# Altium schematic symbol library AltiumilePcbCizimi_Library.SchLib: 28 symbols
Pins are listed as number, name and electrical type; pins without a type are passive.

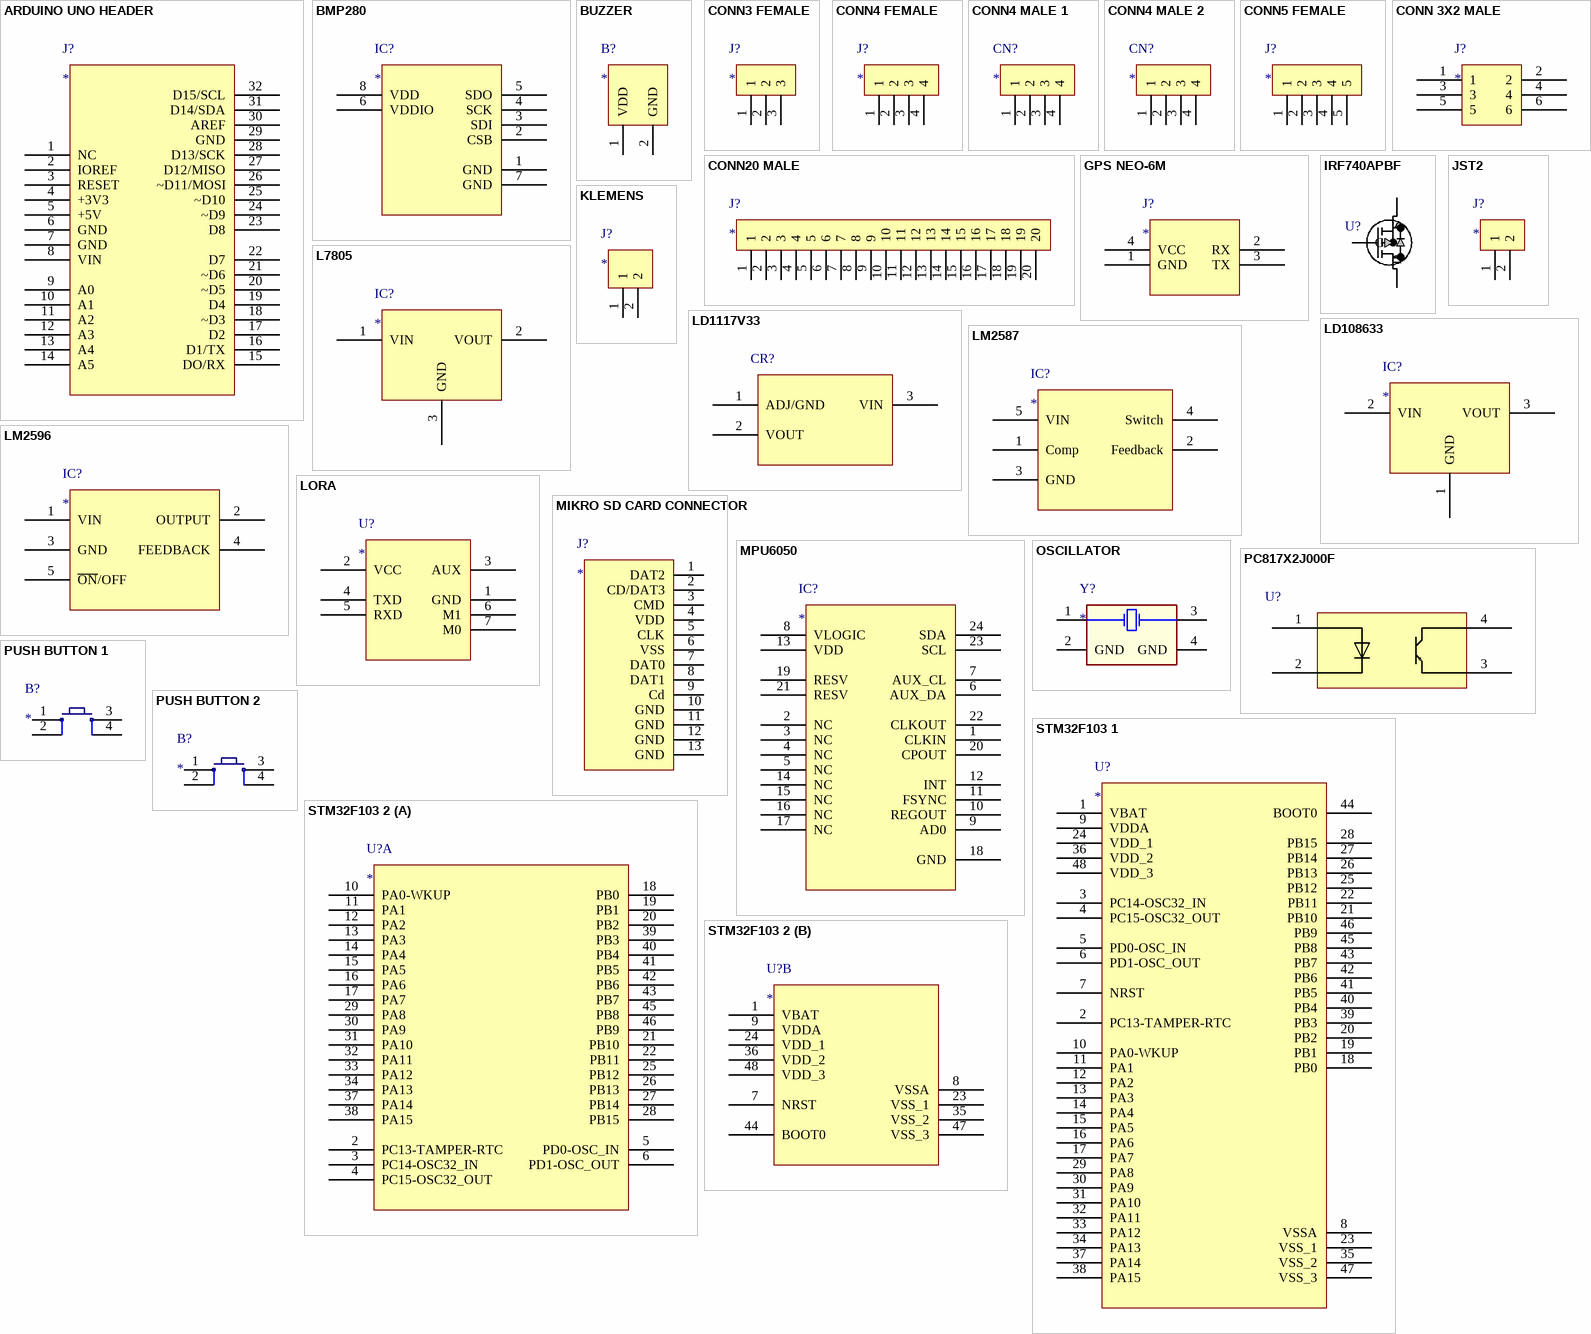
[diagram p0: symbols ARDUINO UNO HEADER to STM32F103 2]

## ARDUINO UNO HEADER
designator J?
footprint ARDUINO UNO HEADER
pins: 1 NC, 2 IOREF, 3 RESET, 4 +3V3, 5 +5V, 6 GND, 7 GND, 8 VIN, 9 A0, 10 A1, 11 A2, 12 A3, 13 A4, 14 A5, 15 DO/RX, 16 D1/TX, 17 D2, 18 ~D3, 19 D4, 20 ~D5, 21 ~D6, 22 D7, 23 D8, 24 ~D9, 25 ~D10, 26 ~D11/MOSI, 27 D12/MISO, 28 D13/SCK, 29 GND, 30 AREF, 31 D14/SDA, 32 D15/SCL

## BMP280
designator IC?
footprint BMP280
pins: 1 GND, 2 CSB, 3 SDI, 4 SCK, 5 SDO, 6 VDDIO, 7 GND, 8 VDD

## BUZZER
designator B?
footprint BUZZER
pins: 1 VDD, 2 GND

## CONN3 FEMALE
designator J?
3 PIN 2.54MM
footprint CONN3 FEMALE (3 PIN 2.54MM)
pins: 1, 2, 3

## CONN4 FEMALE
designator J?
4 PIN 2.54MM
footprint CONN4 FEMALE (4 PIN 2.54MM)
pins: 1, 2, 3, 4

## CONN4 MALE 1
designator CN?
4 PIN 2.54MM
footprint CONN4 MALE 1 (4 PIN 2.54MM)
pins: 1, 2, 3, 4

## CONN4 MALE 2
designator CN?
4 PIN 2.54MM; Supplier 1: Digi-Key; Supplier 2: Farnell; Supplier 3: Mouser; Supplier 4: Arrow Electronics; Supplier Part Number 1: WM8074-ND; Supplier Part Number 2: 3107372; Supplier Part Number 3: 538-90120-0124; Supplier Part Number 4: 90120-0124
footprint CONN4 MALE 2 (4 PIN 2.54MM)
pins: 1, 2, 3, 4

## CONN5 FEMALE
designator J?
4 PIN 2.54MM
footprint CONN5 FEMALE (5 PIN 2.54MM)
pins: 1, 2, 3, 4, 5

## CONN20 MALE
designator J?
20 PIN 2.54MM
footprint CONN20 MALE (3 PIN 2.54MM)
pins: 1, 2, 3, 4, 5, 6, 7, 8, 9, 10, 11, 12, 13, 14, 15, 16, 17, 18, 19, 20

## CONN 3X2 MALE
designator J?
3X2 PIN 2.54MM
footprint CONN 3X2 MALE (3X2 PIN 2.54MM)
pins: 1, 2, 3, 4, 5, 6

## GPS NEO-6M
designator J?
footprint GPS NEO-6M
pins: 1 GND, 2 RX, 3 TX, 4 VCC

## IRF740APBF
designator U?
Mfr_Name: Vishay; Manufacturer_Part_Number: IRF740APBF; Copyright: Copyright (C) 2021 Ultra Librarian. All rights reserved.; RefDes: RefDes; Type: DEV
footprint TO220-IRF740APBF
pins: 1 G, 2 D, 3 S

## JST2
designator J?
2 PIN 2.54MM
footprint JST2 (2 PIN 2.54MM)
pins: 1, 2

## KLEMENS
designator J?
2 PIN 3.5MM
footprint KLEMENS (2 PIN)
pins: 1, 2

## L7805
designator IC?
IC-7805 V.REG.+5V 1.5A DPAK TO252
footprint DPAK (D-PAK, 3-Pads, Body 6,20x6,56mm (max), IPC Medium Density)
pins: 1 VIN, 2 VOUT, 3 GND

## LD1117V33
designator CR?
Mfr_Name: STMicroelectronics; Manufacturer_Part_Number: LD1117V33; Type: DEV; Copyright: Copyright (C) 2021 Ultra Librarian. All rights reserved.; Digi-Key_Part_Number_1: 497-1491-5-ND; RefDes: RefDes
footprint TO220-LD1117V33
pins: 1 ADJ/GND, 2 VOUT (power), 3 VIN (power)

## LD108633
designator IC?
IC-1086 V.REG LDO 3.3V 1.5A TO-252 (DPAK)
footprint DPAK (D-PAK, 3-Pads, Body 6,20x6,56mm (max), IPC Medium Density)
pins: 1 GND, 2 VIN, 3 VOUT

## LM2587
designator IC?
Boost Converter
footprint D2PAK
pins: 1 Comp, 2 Feedback, 3 GND, 4 Switch, 5 VIN

## LM2596
designator IC?
Buck Converter
footprint D2PAK
pins: 1 VIN, 2 OUTPUT, 3 GND, 4 FEEDBACK, 5 ~{ON}/OFF

## LORA
designator U?
E32-TTL-100 SX1278 433 MHz
footprint LORA (E32-TTL-100 SX1278 433 MHz)
pins: 1 GND, 2 VCC, 3 AUX, 4 TXD, 5 RXD, 6 M1, 7 M0

## MIKRO SD CARD CONNECTOR
designator J?
footprint MICRO SD CARD CONNECTOR
pins: 1 DAT2, 2 CD/DAT3, 3 CMD, 4 VDD, 5 CLK, 6 VSS, 7 DAT0, 8 DAT1, 9 Cd, 10 GND, 11 GND, 12 GND, 13 GND

## MPU6050
designator IC?
IC-6050 SENSOR MOTION QFN24
footprint QFN (QFN, 24-Leads, Body 4,00x4,00mm, Pitch 0,50mm, Thermal Pad 2,70x2,60mm, IPC Medium Density)
pins: 1 CLKIN, 2 NC, 3 NC, 4 NC, 5 NC, 6 AUX_DA, 7 AUX_CL, 8 VLOGIC, 9 AD0, 10 REGOUT, 11 FSYNC, 12 INT, 13 VDD, 14 NC, 15 NC, 16 NC, 17 NC, 18 GND, 19 RESV, 20 CPOUT, 21 RESV, 22 CLKOUT, 23 SCL, 24 SDA

## OSCILLATOR
designator Y?
8MHZ 12.5pF
footprint OSCILLATOR (8MHZ 12.5pF)
pins: 1 (power) "Regulator Input Supply. Bypass IN to GND with a 1 uF or greater capacitor.", 2 GND (power) "Ground.", 3 "Enable Input. Drive EN high to turn on the regulator; drive it low to turn off the regulator. For automatic startup, connect EN to IN.", 4 GND "Connect a 1 nF or greater capacitor (10 nF is recommended) between BYP and GND to reduce the internal reference noise for low noise applications."

## PC817X2J000F
designator U?
Mfr_Name: Sharp; Manufacturer_Part_Number: PC817X2J000F; Copyright: Copyright (C) 2021 Ultra Librarian. All rights reserved.; RefDes: RefDes; Type: DEV
footprint PC817X2J000F
pins: 1, 2, 3, 4

## PUSH BUTTON 1
designator B?
footprint PUSB BUTTON
pins: 1, 2, 3, 4

## PUSH BUTTON 2
designator B?
footprint PUSH BUTTON 2
pins: 1, 2, 3, 4

## STM32F103 1
designator U?
footprint LQFP48 (TSQFP, 48-Leads, Body 7,00x7,00mm, Pitch 0,50mm, IPC Medium Density)
pins: 1 VBAT, 2 PC13-TAMPER-RTC, 3 PC14-OSC32_IN, 4 PC15-OSC32_OUT, 5 PD0-OSC_IN, 6 PD1-OSC_OUT, 7 NRST, 8 VSSA, 9 VDDA, 10 PA0-WKUP, 11 PA1, 12 PA2, 13 PA3, 14 PA4, 15 PA5, 16 PA6, 17 PA7, 18 PB0, 19 PB1, 20 PB2, 21 PB10, 22 PB11, 23 VSS_1, 24 VDD_1, 25 PB12, 26 PB13, 27 PB14, 28 PB15, 29 PA8, 30 PA9, 31 PA10, 32 PA11, 33 PA12, 34 PA13, 35 VSS_2, 36 VDD_2, 37 PA14, 38 PA15, 39 PB3, 40 PB4, 41 PB5, 42 PB6, 43 PB7, 44 BOOT0, 45 PB8, 46 PB9, 47 VSS_3, 48 VDD_3

## STM32F103 2
designator U?
footprint LQFP48 (TSQFP, 48-Leads, Body 7,00x7,00mm, Pitch 0,50mm, IPC Medium Density)
part A pins: 2 PC13-TAMPER-RTC, 3 PC14-OSC32_IN, 4 PC15-OSC32_OUT, 5 PD0-OSC_IN, 6 PD1-OSC_OUT, 10 PA0-WKUP, 11 PA1, 12 PA2, 13 PA3, 14 PA4, 15 PA5, 16 PA6, 17 PA7, 18 PB0, 19 PB1, 20 PB2, 21 PB10, 22 PB11, 25 PB12, 26 PB13, 27 PB14, 28 PB15, 29 PA8, 30 PA9, 31 PA10, 32 PA11, 33 PA12, 34 PA13, 37 PA14, 38 PA15, 39 PB3, 40 PB4, 41 PB5, 42 PB6, 43 PB7, 45 PB8, 46 PB9
part B pins: 1 VBAT, 7 NRST, 8 VSSA, 9 VDDA, 23 VSS_1, 24 VDD_1, 35 VSS_2, 36 VDD_2, 44 BOOT0, 47 VSS_3, 48 VDD_3